# EAGLE library part TCA6424ARGJR (library TCA6424-expander)
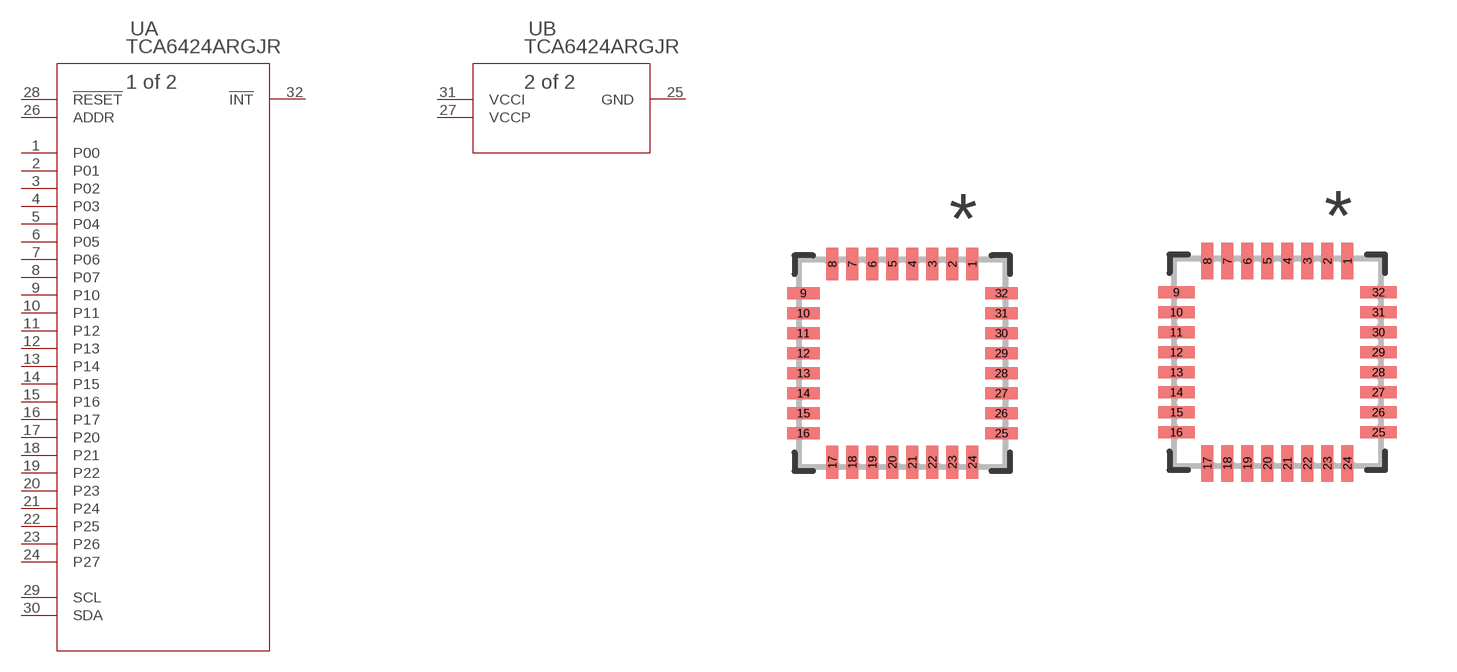
[diagram p0: symbol with the pads of RGJ32; footprints RGJ32, RGJ32-M]

Designator prefix U; gates A=TCA6424ARGJR B=TCA6424ARGJR_A

## TCA6424ARGJR (MANUFACTURER_PART_NUMBER: TCA6424ARGJR; VENDOR: Texas Instruments)  [RGJ32]
1  A:P00  in
2  A:P01  in
3  A:P02  in
4  A:P03  in
5  A:P04  in
6  A:P05  in
7  A:P06  in
8  A:P07  in
9  A:P10  in
10  A:P11  in
11  A:P12  in
12  A:P13  in
13  A:P14  in
14  A:P15  in
15  A:P16  in
16  A:P17  in
17  A:P20  in
18  A:P21  in
19  A:P22  in
20  A:P23  in
21  A:P24  in
22  A:P25  in
23  A:P26  in
24  A:P27  in
25  B:GND  pwr
26  A:ADDR  in
27  B:VCCP  pwr
28  A:!RESET  in
29  A:SCL  pas
30  A:SDA  pas
31  B:VCCI  pwr
32  A:!INT  out

## TCA6424ARGJRRGJ32-M (MANUFACTURER_PART_NUMBER: TCA6424ARGJR; VENDOR: Texas Instruments)  [RGJ32-M]
Pads as for RGJ32

## TCA6424ARGJRRGJ32-L (MANUFACTURER_PART_NUMBER: TCA6424ARGJR; VENDOR: Texas Instruments)  [RGJ32-L]
Pads as for RGJ32

## Footprint RGJ32 (pad centres in mm)
smd 0.305 x 0.813: 1 1.75,2.477; 2 1.25,2.477; 3 0.75,2.477; 4 0.25,2.477; 5 -0.25,2.477; 6 -0.75,2.477; 7 -1.25,2.477; 8 -1.75,2.477; 17 -1.75,-2.477; 18 -1.25,-2.477; 19 -0.75,-2.477; 20 -0.25,-2.477; 21 0.25,-2.477; 22 0.75,-2.477; 23 1.25,-2.477; 24 1.75,-2.477
smd 0.813 x 0.305: 9 -2.477,1.75; 10 -2.477,1.25; 11 -2.477,0.75; 12 -2.477,0.25; 13 -2.477,-0.25; 14 -2.477,-0.75; 15 -2.477,-1.25; 16 -2.477,-1.75; 25 2.477,-1.75; 26 2.477,-1.25; 27 2.477,-0.75; 28 2.477,-0.25; 29 2.477,0.25; 30 2.477,0.75; 31 2.477,1.25; 32 2.477,1.75

## Footprint RGJ32-M (pad centres in mm)
smd 0.305 x 0.914: 1 1.75,2.527; 2 1.25,2.527; 3 0.75,2.527; 4 0.25,2.527; 5 -0.25,2.527; 6 -0.75,2.527; 7 -1.25,2.527; 8 -1.75,2.527; 17 -1.75,-2.527; 18 -1.25,-2.527; 19 -0.75,-2.527; 20 -0.25,-2.527; 21 0.25,-2.527; 22 0.75,-2.527; 23 1.25,-2.527; 24 1.75,-2.527
smd 0.914 x 0.305: 9 -2.527,1.75; 10 -2.527,1.25; 11 -2.527,0.75; 12 -2.527,0.25; 13 -2.527,-0.25; 14 -2.527,-0.75; 15 -2.527,-1.25; 16 -2.527,-1.75; 25 2.527,-1.75; 26 2.527,-1.25; 27 2.527,-0.75; 28 2.527,-0.25; 29 2.527,0.25; 30 2.527,0.75; 31 2.527,1.25; 32 2.527,1.75

## Footprint RGJ32-L (pad centres in mm)
smd 0.305 x 0.711: 1 1.75,2.426; 2 1.25,2.426; 3 0.75,2.426; 4 0.25,2.426; 5 -0.25,2.426; 6 -0.75,2.426; 7 -1.25,2.426; 8 -1.75,2.426; 17 -1.75,-2.426; 18 -1.25,-2.426; 19 -0.75,-2.426; 20 -0.25,-2.426; 21 0.25,-2.426; 22 0.75,-2.426; 23 1.25,-2.426; 24 1.75,-2.426
smd 0.711 x 0.305: 9 -2.426,1.75; 10 -2.426,1.25; 11 -2.426,0.75; 12 -2.426,0.25; 13 -2.426,-0.25; 14 -2.426,-0.75; 15 -2.426,-1.25; 16 -2.426,-1.75; 25 2.426,-1.75; 26 2.426,-1.25; 27 2.426,-0.75; 28 2.426,-0.25; 29 2.426,0.25; 30 2.426,0.75; 31 2.426,1.25; 32 2.426,1.75